# Altium schematic symbol library Schlib1.SchLib: 9 symbols
Pins are listed as number, name and electrical type; pins without a type are passive.

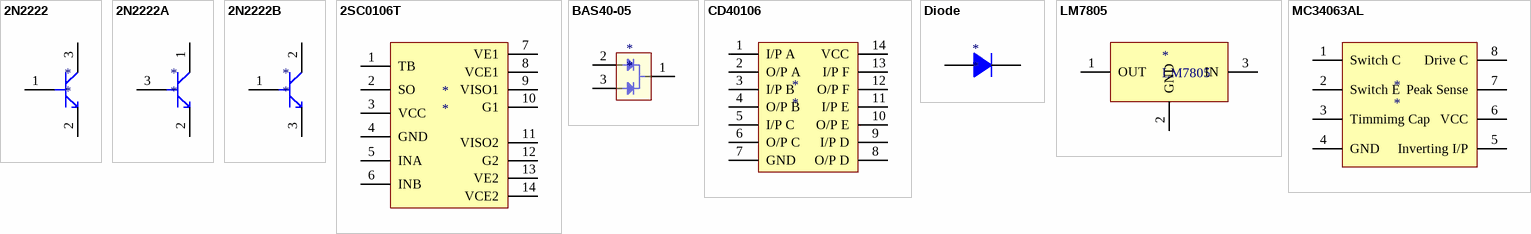
[diagram p0: symbols 2N2222 to MC34063AL]

## 2N2222
designator *
pins: 1, 2, 3

## 2N2222A
designator *
pins: 1, 2, 3

## 2N2222B
designator *
pins: 1, 2, 3

## 2SC0106T
designator *
pins: 1 TB, 2 SO, 3 VCC, 4 GND, 5 INA, 6 INB, 7 VE1, 8 VCE1, 9 VISO1, 10 G1, 11 VISO2, 12 G2, 13 VE2, 14 VCE2

## BAS40-05
designator *
pins: 1, 2, 3

## CD40106
designator *
pins: 1 I/P A, 2 O/P A, 3 I/P B, 4 O/P B, 5 I/P C, 6 O/P C, 7 GND, 8 O/P D, 9 I/P D, 10 O/P E, 11 I/P E, 12 O/P F, 13 I/P F, 14 VCC

## Diode
designator *
pins: 1, 2

## LM7805
designator *
pins: 1 OUT, 2 GND, 3 IN

## MC34063AL
designator *
pins: 1 Switch C, 2 Switch E, 3 Timmimg Cap, 4 GND, 5 Inverting I/P, 6 VCC, 7 Peak Sense, 8 Drive C